# Altium schematic symbol library Conn-11pos.SchLib: 1 symbol
Pins are listed as number, name and electrical type; pins without a type are passive.

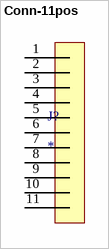
[diagram p0: symbol Conn-11pos]

## Conn-11pos
designator J?
pins: 1, 2, 3, 4, 5, 6, 7, 8, 9, 10, 11